# EAGLE library part MCP23018-E_SO (library SamacSys_Parts)
I/O Expander 16Bit I2C Open-Drain SOIC28 Source: Datasheet
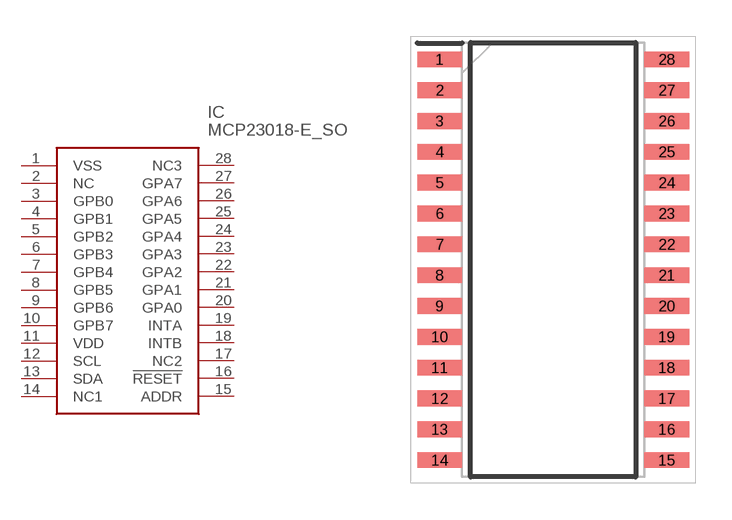
[diagram p22: symbol with the pads of SOIC127P1030X265-28N; footprint SOIC127P1030X265-28N]

Designator prefix IC

## MCP23018-E_SO (DESCRIPTION: I/O Expander 16Bit I2C Open-Drain SOIC28; HEIGHT: 2.65mm; MANUFACTURER_NAME: Microchip; MANUFACTURER_PART_NUMBER: MCP23018-E/SO; MOUSER_PART_NUMBER: 579-MCP23018-E/SO; MOUSER_PRICE-STOCK: https://www.mouser.co.uk/ProductDetail/Microchip-Technology/MCP23018-E-SO?qs=rTzW0HAgjYPHjirMU7d6Og%3D%3D)  [SOIC127P1030X265-28N]
1  VSS
2  NC  nc
3  GPB0
4  GPB1
5  GPB2
6  GPB3
7  GPB4
8  GPB5
9  GPB6
10  GPB7
11  VDD
12  SCL
13  SDA
14  NC1
15  ADDR
16  !RESET
17  NC2
18  INTB
19  INTA
20  GPA0
21  GPA1
22  GPA2
23  GPA3
24  GPA4
25  GPA5
26  GPA6
27  GPA7
28  NC3

## Footprint SOIC127P1030X265-28N (pad centres in mm)
(SO)28-Lead(SOIC)
smd 1.85 x 0.65: 1 -4.675,8.255; 2 -4.675,6.985; 3 -4.675,5.715; 4 -4.675,4.445; 5 -4.675,3.175; 6 -4.675,1.905; 7 -4.675,0.635; 8 -4.675,-0.635; 9 -4.675,-1.905; 10 -4.675,-3.175; 11 -4.675,-4.445; 12 -4.675,-5.715; 13 -4.675,-6.985; 14 -4.675,-8.255; 15 4.675,-8.255; 16 4.675,-6.985; 17 4.675,-5.715; 18 4.675,-4.445; 19 4.675,-3.175; 20 4.675,-1.905; 21 4.675,-0.635; 22 4.675,0.635; 23 4.675,1.905; 24 4.675,3.175; 25 4.675,4.445; 26 4.675,5.715; 27 4.675,6.985; 28 4.675,8.255